# EAGLE library part STMPE610 (library microbuilder)
STMPE610 - 12-Bit Touch Screen Controller
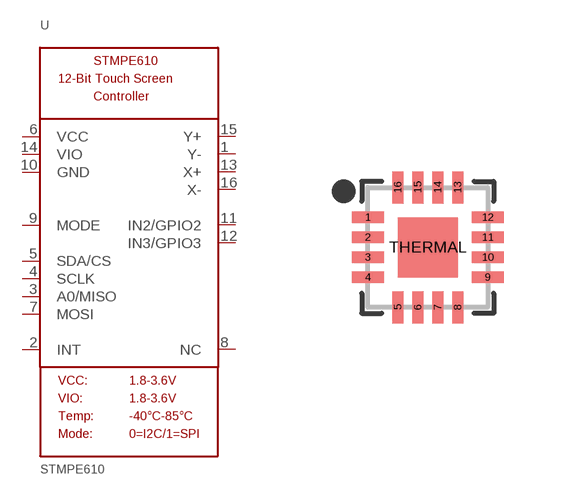
[diagram p4: symbol with the pads of QFN16_3MM; footprint QFN16_3MM]

Designator prefix U

## STMPE610  [QFN16_3MM]
1  Y-  in
2  INT  out
3  A0/MISO
4  SCLK
5  SDA/CS
6  VCC  pwr
7  MOSI  in
8  NC  nc
9  MODE  in
10  GND  pwr
11  IN2/GPIO2
12  IN3/GPIO3
13  X+  in
14  VIO  pwr
15  Y+  in
16  X-  in

## Footprint QFN16_3MM (pad centres in mm)
smd 0.8 x 0.28: 1 -1.5,0.75; 2 -1.5,0.25; 3 -1.5,-0.25; 4 -1.5,-0.75; 9 1.5,-0.75; 10 1.5,-0.25; 11 1.5,0.25; 12 1.5,0.75
smd 0.28 x 0.8: 5 -0.75,-1.5; 6 -0.25,-1.5; 7 0.25,-1.5; 8 0.75,-1.5; 13 0.75,1.5; 14 0.25,1.5; 15 -0.25,1.5; 16 -0.75,1.5
smd 1.5 x 1.5: THERMAL 0,0